# EAGLE library part STM32F205RGE6 (library circuit_tree)
IC
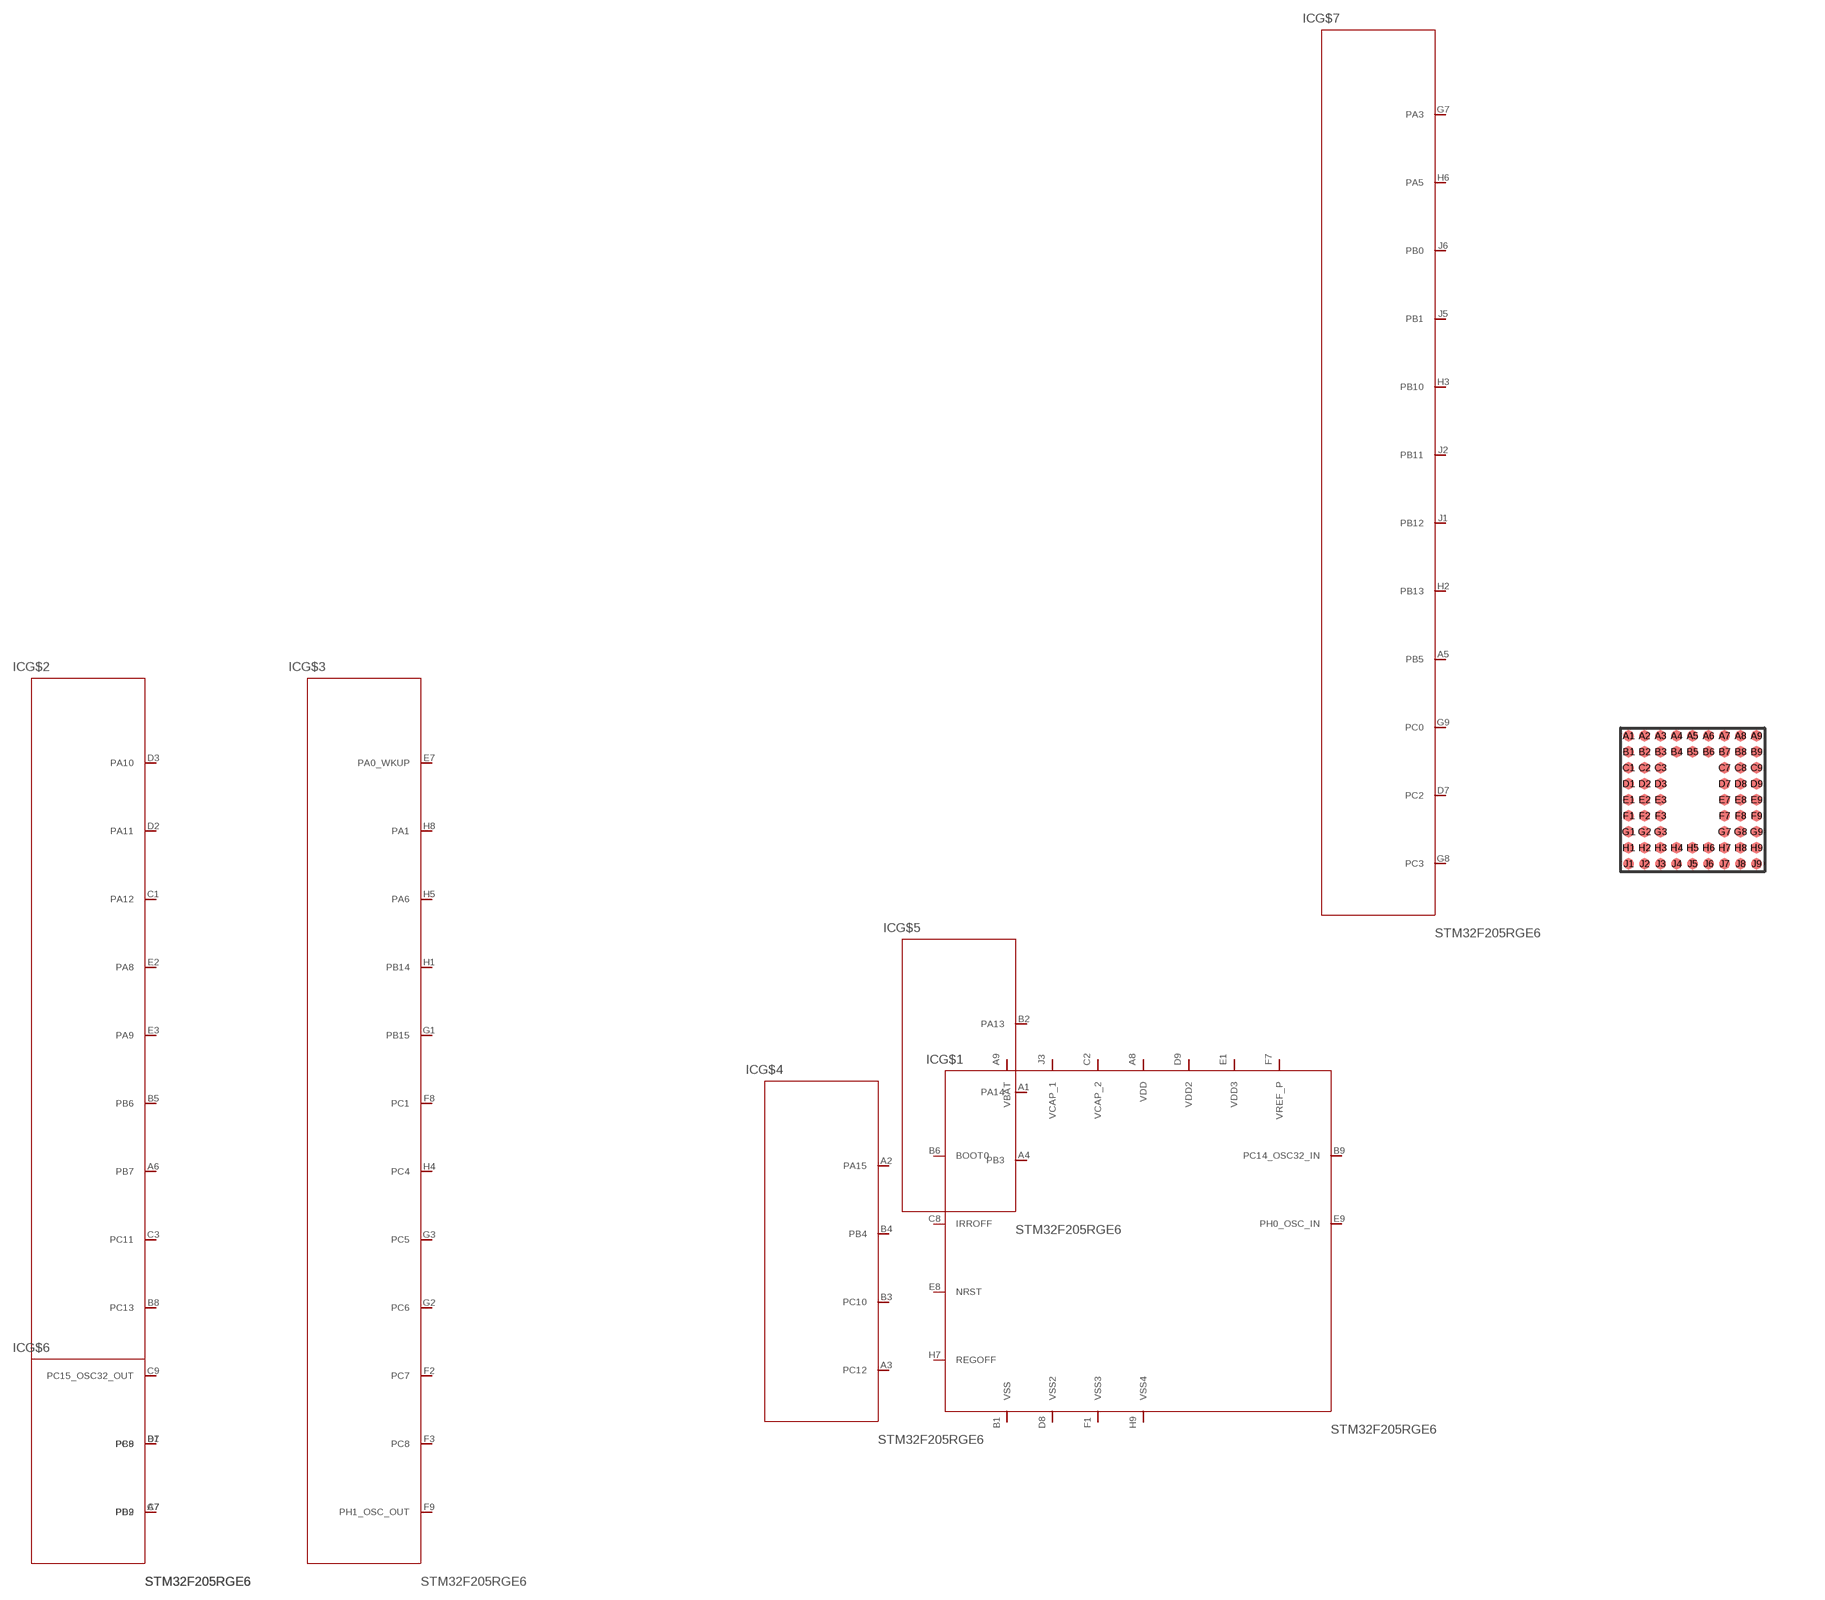
[diagram p7: symbol with the pads of EWLCSP66; footprint EWLCSP66]

Designator prefix IC; gates G$1=STM32F205RGE6 G$2=STM32F205RGE62 G$3=STM32F205RGE63 G$4=STM32F205RGE64 G$5=STM32F205RGE65 G$6=STM32F205RGE66 G$7=STM32F205RGE67

## STM32F205RGE6  [EWLCSP66]
A1  G$5:PA14  pas
A2  G$4:PA15  pas
A3  G$4:PC12  pas
A4  G$5:PB3  pas
A5  G$7:PB5  pas
A6  G$2:PB7  pas
A7  G$6:PB9  pas
A8  G$1:VDD  pas
A9  G$1:VBAT  pas
B1  G$1:VSS  pas
B2  G$5:PA13  pas
B3  G$4:PC10  pas
B4  G$4:PB4  pas
B5  G$2:PB6  pas
B6  G$1:BOOT0  pas
B7  G$6:PB8  pas
B8  G$2:PC13  pas
B9  G$1:PC14_OSC32_IN  pas
C1  G$2:PA12  pas
C2  G$1:VCAP_2  pas
C3  G$2:PC11  pas
C7  G$2:PD2  pas
C8  G$1:IRROFF  pas
C9  G$2:PC15_OSC32_OUT  pas
D1  G$2:PC9  pas
D2  G$2:PA11  pas
D3  G$2:PA10  pas
D7  G$7:PC2  pas
D8  G$1:VSS2  pas
D9  G$1:VDD2  pas
E1  G$1:VDD3  pas
E2  G$2:PA8  pas
E3  G$2:PA9  pas
E7  G$3:PA0_WKUP  pas
E8  G$1:NRST  pas
E9  G$1:PH0_OSC_IN  pas
F1  G$1:VSS3  pas
F2  G$3:PC7  pas
F3  G$3:PC8  pas
F7  G$1:VREF_P  pas
F8  G$3:PC1  pas
F9  G$3:PH1_OSC_OUT  pas
G1  G$3:PB15  pas
G2  G$3:PC6  pas
G3  G$3:PC5  pas
G7  G$7:PA3  pas
G8  G$7:PC3  pas
G9  G$7:PC0  pas
H1  G$3:PB14  pas
H2  G$7:PB13  pas
H3  G$7:PB10  pas
H4  G$3:PC4  pas
H5  G$3:PA6  pas
H6  G$7:PA5  pas
H7  G$1:REGOFF  pas
H8  G$3:PA1  pas
H9  G$1:VSS4  pas
J1  G$7:PB12  pas
J2  G$7:PB11  pas
J3  G$1:VCAP_1  pas
J5  G$7:PB1  pas
J6  G$7:PB0  pas

## Footprint EWLCSP66 (pad centres in mm)
smd 0.27 x 0.27: A1 0,0; A2 0.4,0; A3 0.8,0; A4 1.2,0; A5 1.6,0; A6 2,0; A7 2.4,0; A8 2.8,0; A9 3.2,0; B1 0,-0.4; B2 0.4,-0.4; B3 0.8,-0.4; B4 1.2,-0.4; B5 1.6,-0.4; B6 2,-0.4; B7 2.4,-0.4; B8 2.8,-0.4; B9 3.2,-0.4; C1 0,-0.8; C2 0.4,-0.8; C3 0.8,-0.8; C7 2.4,-0.8; C8 2.8,-0.8; C9 3.2,-0.8; D1 0,-1.2; D2 0.4,-1.2; D3 0.8,-1.2; D7 2.4,-1.2; D8 2.8,-1.2; D9 3.2,-1.2; E1 0,-1.6; E2 0.4,-1.6; E3 0.8,-1.6; E7 2.4,-1.6; E8 2.8,-1.6; E9 3.2,-1.6; F1 0,-2; F2 0.4,-2; F3 0.8,-2; F7 2.4,-2; F8 2.8,-2; F9 3.2,-2; G1 0,-2.4; G2 0.4,-2.4; G3 0.8,-2.4; G7 2.4,-2.4; G8 2.8,-2.4; G9 3.2,-2.4; H1 0,-2.8; H2 0.4,-2.8; H3 0.8,-2.8; H4 1.2,-2.8; H5 1.6,-2.8; H6 2,-2.8; H7 2.4,-2.8; H8 2.8,-2.8; H9 3.2,-2.8; J1 0,-3.2; J2 0.4,-3.2; J3 0.8,-3.2; J4 1.2,-3.2; J5 1.6,-3.2; J6 2,-3.2; J7 2.4,-3.2; J8 2.8,-3.2; J9 3.2,-3.2